# Altium footprint library terminal block 2 pos.PcbLib: 1 footprints
Each footprint in its own frame and in the unit in brackets; x right, y up, seen from the top. Pads: shape width x height; smd on the part's side, far side on the other; paste and mask are expansions set on the pad; w line width, h text height; cw(c..) or ccw(c..) is an arc to the next point about the centre after c.
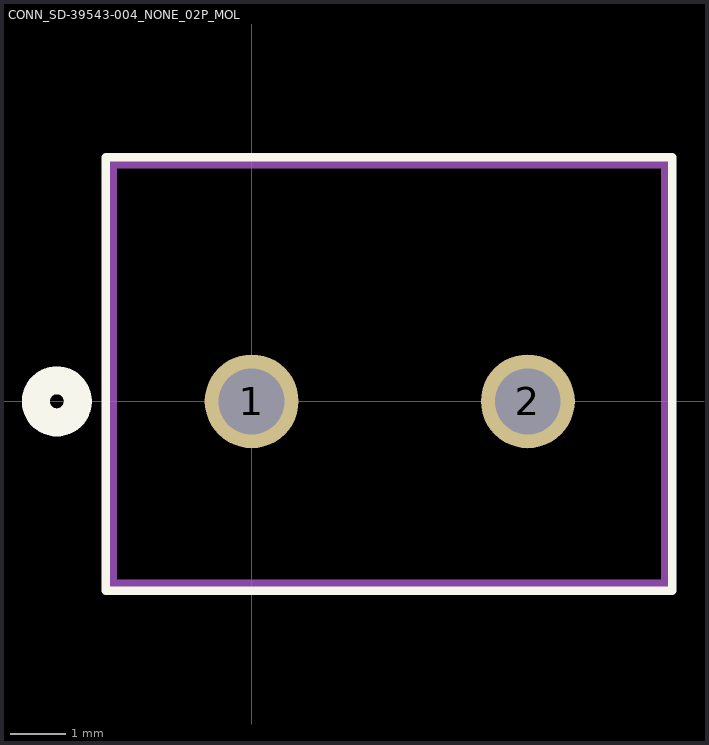
[diagram p0: the footprint, top view; thin cyan lines are the x and y axes]

## CONN_SD-39543-004_NONE_02P_MOL [mil]
pads (2):
  round 67 hole 47 mask+4.02: 1(0,0) 2(197,0)
Top Overlay:
  lines w6: -104,-135 300,-135 300,174 -104,174 -104,-135
  lines w20: -154,0 ccw(c-139,0) -124,0 ccw(c-139,0) -154,0
Bottom Overlay:
  lines w20: -154,0 ccw(c-139,0) -124,0 ccw(c-139,0) -154,0
Assembly Top:
  lines w6: -99,-130 295,-130 295,169 -99,169 -99,-130
  lines w20: -15,0 ccw(c0,0) 15,0 ccw(c0,0) -15,0
3D body "395930602.SLDPRT": height 395, standoff -109, extent -97.5,-120 297.5,180